# Altium schematic symbol library 5V_to_3V3_LDO.SchLib: 3 symbols
Pins are listed as number, name and electrical type; pins without a type are passive.

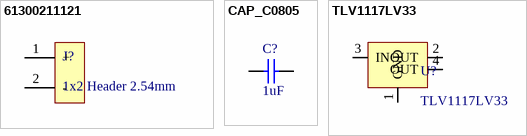
[diagram p0: symbols 61300211121 to TLV1117LV33]

## 61300211121
designator J?, comment 1x2 Header 2.54mm
2-pin vertical male header, 2.54mm pitch, through-hole; Manufacturer: Wurth Elektronik; Manufacturer Part Number: 61300211121; Number of Contacts: 2; RoHS: Compliant; Mounting Technology: Through Hole; Pins: 2; Number of Rows: 1; Orientation: Vertical; Pitch: 2.54mm; ComponentLink2URL: https://www.we-online.com/components/products/datasheet/61300211121.pdf; ComponentLink2Description: Datasheet; Gender: Male
footprint PINHDR_1x02_P2.54_VERT
pins: 1 +, 2 -

## CAP_C0805
designator C?, comment 1uF
1uF ±10%, 50V, X7R ceramic capacitor, 0805; Manufacturer: Würth Elektronik; Manufacturer Part Number: 885012207103; Dielectric: X7R; Voltage Rating: 50V; Capacitance: 1uF; Tolerance: ±10%; Package: 0805; ComponentLink1Description: Datasheet; ComponentLink1URL: https://www.we-online.com/components/products/datasheet/885012207103.pdf
footprint C0805 (Chip Capacitor, Body 2.0x1.3mm, IPC High Density)
pins: 1, 2

## TLV1117LV33
designator U?
1-A, 3.3-V Fixed-Output LDO Regulator
footprint TLV1117LV33DCYT (4-pin SOT-223, package code DCY)
pins: 1 GND (power), 2 OUT (power), 3 IN (power), 4 OUT (power)